# EAGLE library part RASPBERRY_PI_B+ (library GClue)
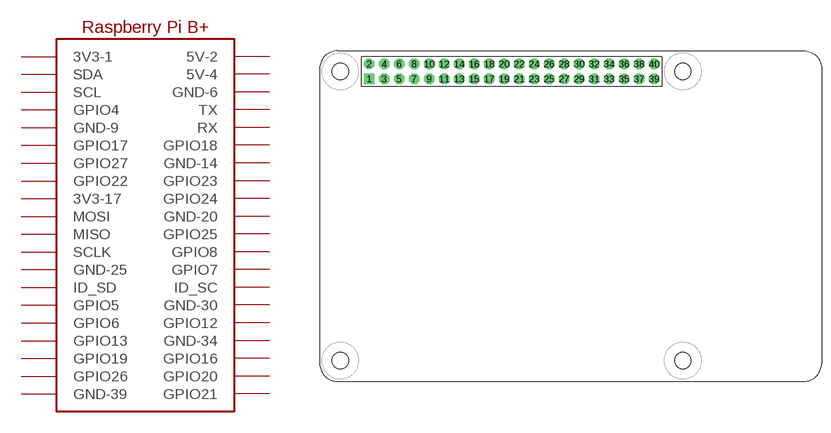
[diagram p17: symbol with the pads of RASPBERRY_PI_B+; footprint RASPBERRY_PI_B+]

Designator prefix U

## RASPBERRY_PI_B+  [RASPBERRY_PI_B+]
1  3V3-1
2  5V-2
3  SDA
4  5V-4
5  SCL
6  GND-6
7  GPIO4
8  TX
9  GND-9
10  RX
11  GPIO17
12  GPIO18
13  GPIO27
14  GND-14
15  GPIO22
16  GPIO23
17  3V3-17
18  GPIO24
19  MOSI
20  GND-20
21  MISO
22  GPIO25
23  SCLK
24  GPIO8
25  GND-25
26  GPIO7
27  ID_SD
28  ID_SC
29  GPIO5
30  GND-30
31  GPIO6
32  GPIO12
33  GPIO13
34  GND-34
35  GPIO19
36  GPIO16
37  GPIO26
38  GPIO20
39  GND-39
40  GPIO21

## Footprint RASPBERRY_PI_B+ (pad centres in mm)
drill 1 pad 1.778 square: 1 8.89,52.07
drill 1 pad 1.778 octagon: 2 8.89,54.61; 3 11.43,52.07; 4 11.43,54.61; 5 13.97,52.07; 6 13.97,54.61; 7 16.51,52.07; 8 16.51,54.61; 9 19.05,52.07; 10 19.05,54.61; 11 21.59,52.07; 12 21.59,54.61; 13 24.13,52.07; 14 24.13,54.61; 15 26.67,52.07; 16 26.67,54.61; 17 29.21,52.07; 18 29.21,54.61; 19 31.75,52.07; 20 31.75,54.61; 21 34.29,52.07; 22 34.29,54.61; 23 36.83,52.07; 24 36.83,54.61; 25 39.37,52.07; 26 39.37,54.61; 27 41.91,52.07; 28 41.91,54.61; 29 44.45,52.07; 30 44.45,54.61; 31 46.99,52.07; 32 46.99,54.61; 33 49.53,52.07; 34 49.53,54.61; 35 52.07,52.07; 36 52.07,54.61; 37 54.61,52.07; 38 54.61,54.61; 39 57.15,52.07; 40 57.15,54.61